# Altium schematic symbol library IC-PWR.SchLib: 11 symbols
Pins are listed as number, name and electrical type; pins without a type are passive.

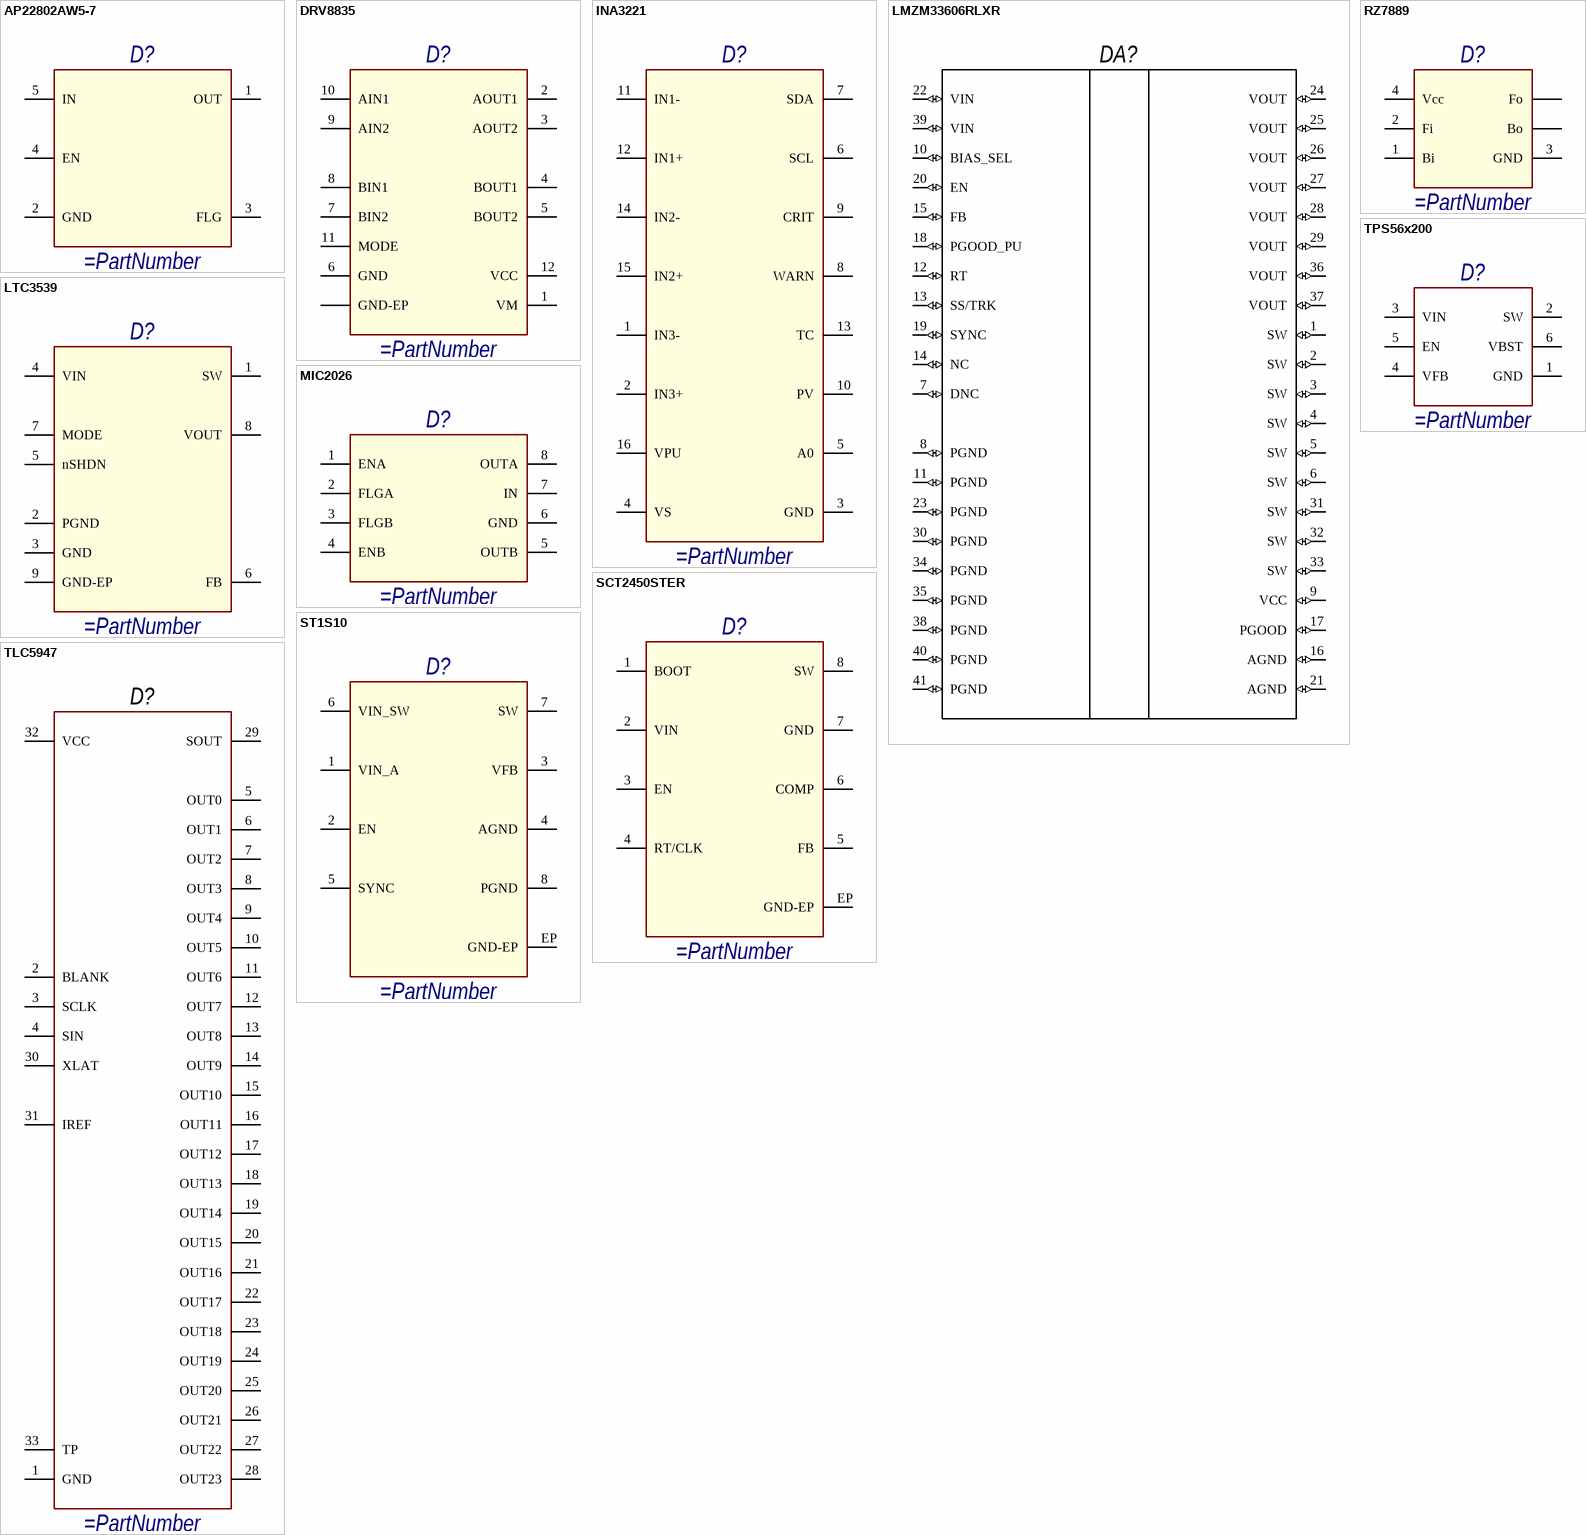
[diagram p0: symbols AP22802AW5-7 to TPS56x200]

## AP22802AW5-7
designator D?
SINGLE CHANNEL POWER DISTRIBUTION LOAD SWITCH
pins: 1 OUT, 2 GND, 3 FLG, 4 EN, 5 IN

## DRV8835
designator D?
DRV8835 Dual-H-Bridge Motor Driver / 1.5-A Maximum Drive Current Per H-Bridge / 0-V to 11-V Motor-Operating Supply-Voltage / 2-V to 7-V Logic Supply-Voltage
pins: 1 VM, 2 AOUT1, 3 AOUT2, 4 BOUT1, 5 BOUT2, 6 GND, 7 BIN2, 8 BIN1, 9 AIN2, 10 AIN1, 11 MODE, 12 VCC, EP GND-EP

## INA3221
designator D?
Triple-Channel, High-Side Measurement, Shunt and Bus Voltage Monitor
pins: 1 IN3-, 2 IN3+, 3 GND, 4 VS, 5 A0, 6 SCL, 7 SDA, 8 WARN, 9 CRIT, 10 PV, 11 IN1-, 12 IN1+, 13 TC, 14 IN2-, 15 IN2+, 16 VPU

## LMZM33606RLXR
designator DA?  (value not drawn)
3.5-V to 36-V Input, 1-V to 20-V Output, 6-A Power Module; PartLabel: LMZM33606RLXR каталог Texas Instruments; Catalog: каталог Texas Instruments; PartNumber: LMZM33606RLXR; Mount: Yes; Type: Микросхема
footprint B3QFN(RLX) (B3QFN, 41-Leads, Body 10.00x16.00mm)
pins: 1 SW (io), 2 SW (io), 3 SW (io), 4 SW (io), 5 SW (io), 6 SW (io), 7 DNC (io), 8 PGND (io), 9 VCC (io), 10 BIAS_SEL (io), 11 PGND (io), 12 RT (io), 13 SS/TRK (io), 14 NC (io), 15 FB (io), 16 AGND (io), 17 PGOOD (io), 18 PGOOD_PU (io), 19 SYNC (io), 20 EN (io), 21 AGND (io), 22 VIN (io), 23 PGND (io), 24 VOUT (io), 25 VOUT (io), 26 VOUT (io), 27 VOUT (io), 28 VOUT (io), 29 VOUT (io), 30 PGND (io), 31 SW (io), 32 SW (io), 33 SW (io), 34 PGND (io), 35 PGND (io), 36 VOUT (io), 37 VOUT (io), 38 PGND (io), 39 VIN (io), 40 PGND (io), 41 PGND (io)

## LTC3539
designator D?
pins: 1 SW, 2 PGND, 3 GND, 4 VIN, 5 nSHDN, 6 FB, 7 MODE, 8 VOUT, 9 GND-EP

## MIC2026
designator D?
3 A, 900 kHz, monolithic synchronous step-down regulator IC
pins: 1 ENA, 2 FLGA, 3 FLGB, 4 ENB, 5 OUTB, 6 GND, 7 IN, 8 OUTA

## RZ7889
designator D?
pins: 1 Bi, 2 Fi, 3 GND, 4 Vcc, 5, 6 Fo, 7, 8 Bo

## SCT2450STER
designator D?
3.8V-36V Input, 5A Output, High Efficiency Synchronous Step-down DC-DC Converter
pins: 1 BOOT, 2 VIN, 3 EN, 4 RT/CLK, 5 FB, 6 COMP, 7 GND, 8 SW, EP GND-EP

## ST1S10
designator D?
3 A, 900 kHz, monolithic synchronous step-down regulator IC
pins: 1 VIN_A, 2 EN, 3 VFB, 4 AGND, 5 SYNC, 6 VIN_SW, 7 SW, 8 PGND, EP GND-EP

## TLC5947
designator D?
24-channel, 12-bit PWM LED driver with internal Oscillator
pins: 1 GND, 2 BLANK, 3 SCLK, 4 SIN, 5 OUT0, 6 OUT1, 7 OUT2, 8 OUT3, 9 OUT4, 10 OUT5, 11 OUT6, 12 OUT7, 13 OUT8, 14 OUT9, 15 OUT10, 16 OUT11, 17 OUT12, 18 OUT13, 19 OUT14, 20 OUT15, 21 OUT16, 22 OUT17, 23 OUT18, 24 OUT19, 25 OUT20, 26 OUT21, 27 OUT22, 28 OUT23, 29 SOUT, 30 XLAT, 31 IREF, 32 VCC, 33 TP

## TPS56x200
designator D?
pins: 1 GND, 2 SW, 3 VIN, 4 VFB, 5 EN, 6 VBST